# Altium footprint library a7105.PcbLib: 1 footprints
Each footprint in its own frame and in the unit in brackets; x right, y up, seen from the top. Pads: shape width x height; smd on the part's side, far side on the other; paste and mask are expansions set on the pad; w line width, h text height; cw(c..) or ccw(c..) is an arc to the next point about the centre after c.
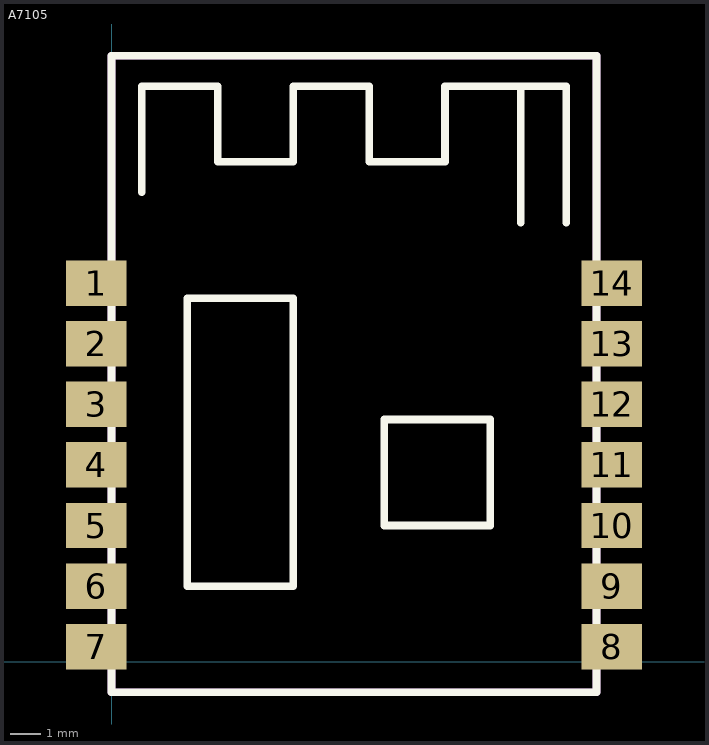
[diagram p0: the footprint, top view; thin cyan lines are the x and y axes]

## A7105 [mm]
pads (14):
  rect 2x1.5 smd: 1(-0.5,12.5) 2(-0.5,10.5) 3(-0.5,8.5) 4(-0.5,6.5) 5(-0.5,4.5) 6(-0.5,2.5) 7(-0.5,0.5) 8(16.5,0.5) 9(16.5,2.5) 10(16.5,4.5) 11(16.5,6.5) 12(16.5,8.5) 13(16.5,10.5) 14(16.5,12.5)
Top Overlay:
  lines w0.254: 1,15.5 1,19 3.5,19 3.5,16.5 6,16.5 6,19 8.5,19 8.5,16.5 11,16.5 11,19 13.5,19 ; 13.5,14.5 13.5,19 ; 15,14.5 15,19 13.5,19 ; 0,-1 16,-1 16,20 0,20 0,-1 ; 2.5,2.5 6,2.5 6,12 2.5,12 2.5,2.5 ; 9,4.5 12.5,4.5 12.5,8 9,8 9,4.5
Mechanical 1:
  lines w0.254: 0,-1 16,-1 16,20 0,20 0,-1